# Altium schematic symbol library 0402_Capacitors.SchLib: 6 symbols
Pins are listed as number, name and electrical type; pins without a type are passive.

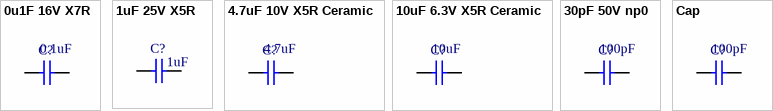
[diagram p0: symbols 0u1F 16V X7R to Cap]

## 0u1F 16V X7R
designator C?  value 0.1uF
Capacitor; Published: 8-Jun-2000; LatestRevisionDate: 17-Jul-2002; LatestRevisionNote: Re-released for DXP Platform.; PackageReference: RAD-0.3; Publisher: Altium Limited; PackageDescription: Radial Cap, Thru-Hole; 2 Leads; 0.3 in Pin Spacing; Supplier 1: Mouser; Supplier Part Number 1: 81-GRM155R71C104KA88
simulation model CAP (Capacitor)
signal-integrity model Cap
footprint 0402_L_C (0402 SMD for chip capacitor)
pins: 1, 2

## 1uF 25V X5R
designator C?  value 1uF
Capacitor; Published: 8-Jun-2000; LatestRevisionDate: 17-Jul-2002; LatestRevisionNote: Re-released for DXP Platform.; PackageReference: RAD-0.3; Publisher: Altium Limited; PackageDescription: Radial Cap, Thru-Hole; 2 Leads; 0.3 in Pin Spacing; Supplier 1: Mouser; Supplier Part Number 1: 810-C1005X5R1E105M
simulation model CAP (Capacitor)
signal-integrity model Cap
footprint 0402_L_C (0402 SMD for chip capacitor)
pins: 1, 2

## 4.7uF 10V X5R Ceramic
designator C?  value 4.7uF
Capacitor; Published: 8-Jun-2000; LatestRevisionDate: 17-Jul-2002; LatestRevisionNote: Re-released for DXP Platform.; PackageReference: RAD-0.3; Publisher: Altium Limited; PackageDescription: Radial Cap, Thru-Hole; 2 Leads; 0.3 in Pin Spacing; Supplier 1: Mouser; Supplier Part Number 1: 81-ZRB15XR61A475KE1D
simulation model CAP (Capacitor)
signal-integrity model Cap
footprint 0402_L_C (0402 SMD for chip capacitor)
pins: 1, 2

## 10uF 6.3V X5R Ceramic
designator C?  value 10uF
Capacitor; Published: 8-Jun-2000; LatestRevisionDate: 17-Jul-2002; LatestRevisionNote: Re-released for DXP Platform.; PackageReference: RAD-0.3; Publisher: Altium Limited; PackageDescription: Radial Cap, Thru-Hole; 2 Leads; 0.3 in Pin Spacing; Supplier 1: Mouser; Supplier Part Number 1: 81-GRJ155R60J106ME1D
simulation model CAP (Capacitor)
signal-integrity model Cap
footprint 0402_L_C (0402 SMD for chip capacitor)
pins: 1, 2

## 30pF 50V np0
designator C?  value 100pF
Capacitor; Published: 8-Jun-2000; LatestRevisionDate: 17-Jul-2002; LatestRevisionNote: Re-released for DXP Platform.; PackageReference: RAD-0.3; Publisher: Altium Limited; PackageDescription: Radial Cap, Thru-Hole; 2 Leads; 0.3 in Pin Spacing; Supplier 1: Mouser; Supplier Part Number 1: 603-CC402JRNPO9BN300
simulation model CAP (Capacitor)
signal-integrity model Cap
footprint 0402_L_C (0402 SMD for chip capacitor)
pins: 1, 2

## Cap
designator C?  value 100pF
Capacitor; Published: 8-Jun-2000; LatestRevisionDate: 17-Jul-2002; LatestRevisionNote: Re-released for DXP Platform.; PackageReference: RAD-0.3; Publisher: Altium Limited; PackageDescription: Radial Cap, Thru-Hole; 2 Leads; 0.3 in Pin Spacing
simulation model CAP (Capacitor)
signal-integrity model Cap
footprint 0402_L_C (0402 SMD for chip capacitor)
pins: 1, 2